# EAGLE library part LORA_MOTE (library LORA_MOTE)
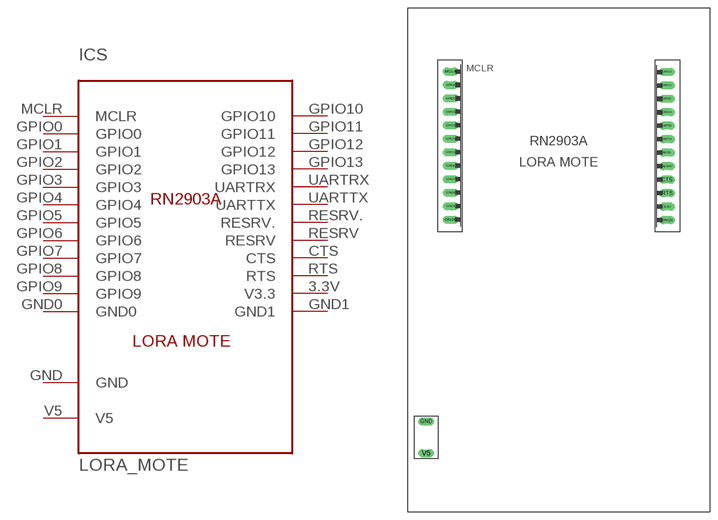
[diagram p0: symbol with the pads of LORA_MOTE_RN2903; footprint LORA_MOTE_RN2903]

Designator prefix ICS

## LORA_MOTE  [LORA_MOTE_RN2903]
3.3V  V3.3
CTS  CTS
GND  GND
GND0  GND0
GND1  GND1
GPIO0  GPIO0
GPIO1  GPIO1
GPIO2  GPIO2
GPIO3  GPIO3
GPIO4  GPIO4
GPIO5  GPIO5
GPIO6  GPIO6
GPIO7  GPIO7
GPIO8  GPIO8
GPIO9  GPIO9
GPIO10  GPIO10
GPIO11  GPIO11
GPIO12  GPIO12
GPIO13  GPIO13
MCLR  MCLR
RESRV  RESRV
RESRV.  RESRV.
RTS  RTS
UARTRX  UARTRX
UARTTX  UARTTX
V5  V5

## Footprint LORA_MOTE_RN2903 (pad centres in mm)
drill 1.016 long: 3.3V 19.92,3.52; CTS 19.92,8.6; GND0 -20.92,1.08; GND1 19.92,0.98; GPIO0 -20.92,26.48; GPIO1 -20.92,23.94; GPIO2 -20.92,21.4; GPIO3 -20.92,18.86; GPIO4 -20.92,16.32; GPIO5 -20.92,13.78; GPIO6 -20.92,11.24; GPIO7 -20.92,8.7; GPIO8 -20.92,6.16; GPIO9 -20.92,3.62; GPIO10 19.92,28.92; GPIO11 19.92,26.38; GPIO12 19.92,23.84; GPIO13 19.92,21.3; MCLR -20.92,29.02; RESRV 19.92,11.14; RESRV. 19.92,13.68; RTS 19.92,6.06; UARTRX 19.92,18.76; UARTTX 19.92,16.22
drill 1.03 long: GND -25.5,-37; V5 -25.5,-43